# EAGLE library part ARDUINO_NANO (library Arduino)
Arduino Nano plug in module
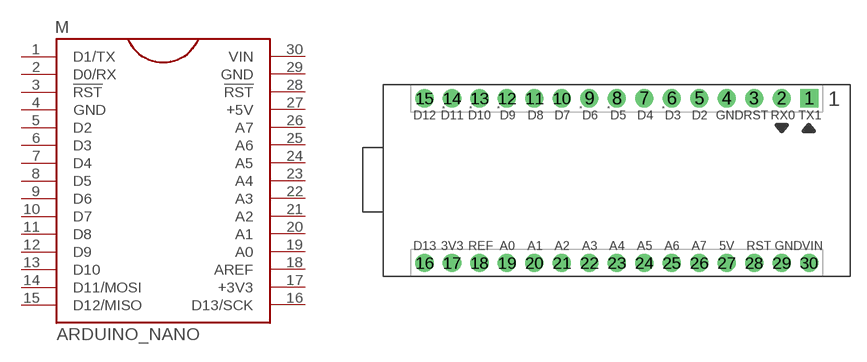
[diagram p1: symbol with the pads of ARDUINO_NANO; footprint ARDUINO_NANO]

Designator prefix M

## ARDUINO_NANO  [ARDUINO_NANO]
1  D1/TX
2  D0/RX
3  !RST  in
4  GND  pas
5  D2
6  D3
7  D4
8  D5
9  D6
10  D7
11  D8
12  D9
13  D10
14  D11/MOSI
15  D12/MISO
16  D13/SCK
17  +3V3  pas
18  AREF  pas
19  A0
20  A1
21  A2
22  A3
23  A4
24  A5
25  A6
26  A7
27  +5V  pas
28  !RST  in
29  GND  pas
30  VIN  pas

## Footprint ARDUINO_NANO (pad centres in mm)
drill 0.914 pad 1.676 square: 1 17.78,7.62
drill 0.914 pad 1.676: 2 15.24,7.62; 3 12.7,7.62; 4 10.16,7.62; 5 7.62,7.62; 6 5.08,7.62; 7 2.54,7.62; 8 0,7.62; 9 -2.54,7.62; 10 -5.08,7.62; 11 -7.62,7.62; 12 -10.16,7.62; 13 -12.7,7.62; 14 -15.24,7.62; 15 -17.78,7.62; 16 -17.78,-7.62; 17 -15.24,-7.62; 18 -12.7,-7.62; 19 -10.16,-7.62; 20 -7.62,-7.62; 21 -5.08,-7.62; 22 -2.54,-7.62; 23 0,-7.62; 24 2.54,-7.62; 25 5.08,-7.62; 26 7.62,-7.62; 27 10.16,-7.62; 28 12.7,-7.62; 29 15.24,-7.62; 30 17.78,-7.62